# EAGLE library part BME280_BREAKOUT (library adafruit-supplemental-arkane)
Adafruit BME280 Temperature/Humidity/Pressure Sensor Breakout - https://www.adafruit.com/product/2652
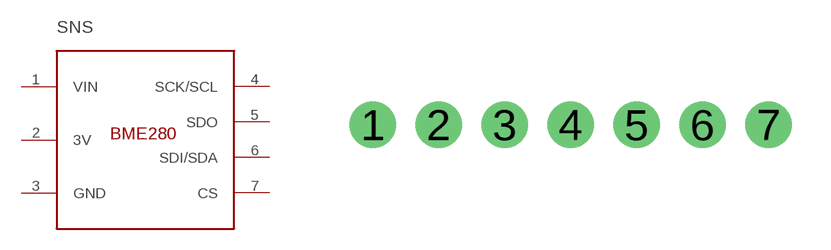
[diagram p2: symbol with the pads of BME280_BREAKOUT; footprint BME280_BREAKOUT]

Designator prefix SNS

## BME280_BREAKOUT  [BME280_BREAKOUT]
1  VIN  pwr
2  3V  pas
3  GND  pwr
4  SCK/SCL  in
5  SDO
6  SDI/SDA
7  CS

## Footprint BME280_BREAKOUT (pad centres in mm)
Footprint for BME280 breakout.
drill 1 pad 1.778: 1 2.54,1.27; 2 5.08,1.27; 3 7.62,1.27; 4 10.16,1.27; 5 12.7,1.27; 6 15.24,1.27; 7 17.78,1.27